# Altium schematic symbol library ACS711KEXLT-15AB-T.Schlib: 1 symbol
Pins are listed as number, name and electrical type; pins without a type are passive.

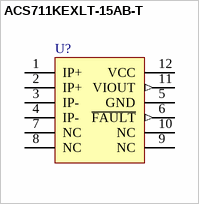
[diagram p0: symbol ACS711KEXLT-15AB-T]

## ACS711KEXLT-15AB-T
designator U?
Hall Effect Linear Current Sensor
pins: 1 IP+ "Terminals for current being sensed; fused internally", 2 IP+ "Terminals for current being sensed; fused internally", 3 IP- "Terminals for current being sensed; fused internally", 4 IP- "Terminals for current being sensed; fused internally", 5 GND (power) "Signal ground terminal", 6 ~{FAULT} (out) "Overcurrent fault; active low", 7 NC "No connection; connect to GND for optimal ESD performance.", 8 NC "No connection; connect to GND for optimal ESD performance.", 9 NC "No connection; connect to GND for optimal ESD performance.", 10 NC "No connection; connect to GND for optimal ESD performance.", 11 VIOUT (out) "Analog output signal", 12 VCC (power) "Device power supply terminal"